# Altium footprint library Recovery.PcbLib: 7 footprints
Each footprint in its own frame and in the unit in brackets; x right, y up, seen from the top. Pads: shape width x height; smd on the part's side, far side on the other; paste and mask are expansions set on the pad; w line width, h text height; cw(c..) or ccw(c..) is an arc to the next point about the centre after c.
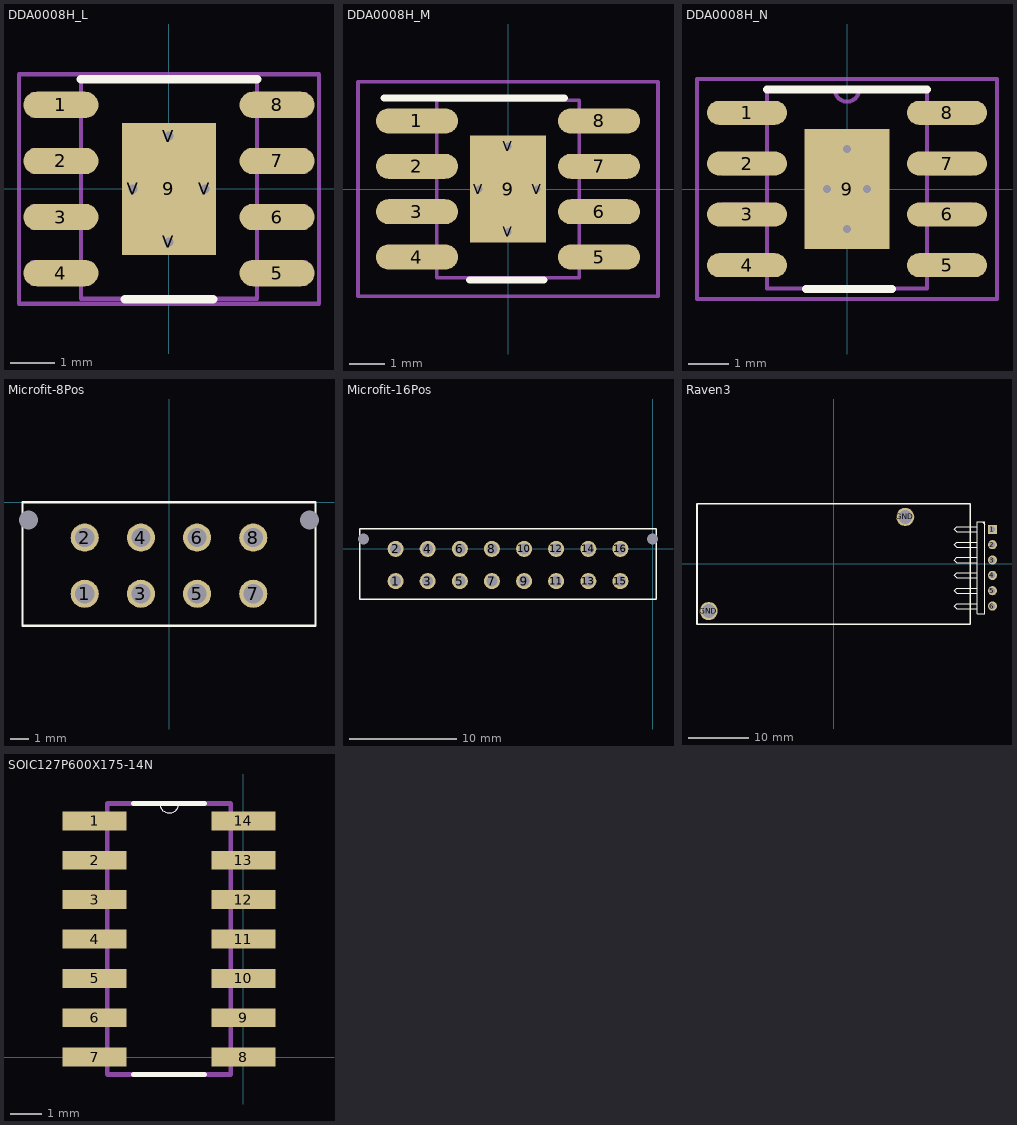
[diagram p0: the footprints below, top view; thin cyan lines are the x and y axes]

## DDA0008H_L [mm]
pads (13):
  oval 1.7x0.6 smd paste-0.102 mask+0.051: 1(-2.45,1.905) 2(-2.45,0.635) 3(-2.45,-0.635) 4(-2.45,-1.905) 5(2.45,-1.905) 6(2.45,-0.635) 7(2.45,0.635) 8(2.45,1.905)
  rect 2.13x3 smd paste-0.102 mask+0.051: 9(0,0)
  round 0.5 / inner round 1.524 / far side round 0.5 hole 0.203 mask+0.051: V(-0.815,0) V(0,-1.2) V(0,1.2) V(0.815,0)
Top Overlay:
  lines w0.2: -1.994,2.489 1.994,2.489 ; -1,-2.5 1,-2.5
Mechanical 13:
  lines w0.1: -3.099,-2.146 -1.994,-2.146 -1.994,-1.664 -3.099,-1.664 -3.099,-2.146 ; -3.099,-0.876 -1.994,-0.876 -1.994,-0.394 -3.099,-0.394 -3.099,-0.876 ; -3.099,0.394 -1.994,0.394 -1.994,0.876 -3.099,0.876 -3.099,0.394 ; -3.099,1.664 -1.994,1.664 -1.994,2.146 -3.099,2.146 -3.099,1.664 ; -1.994,-2.489 -1.994,2.489 1.994,2.489 1.994,-2.489 -1.994,-2.489 ; 1.994,-2.146 3.099,-2.146 3.099,-1.664 1.994,-1.664 1.994,-2.146 ; 1.994,-0.876 3.099,-0.876 3.099,-0.394 1.994,-0.394 1.994,-0.876 ; 1.994,0.394 3.099,0.394 3.099,0.876 1.994,0.876 1.994,0.394 ; 1.994,1.664 3.099,1.664 3.099,2.146 1.994,2.146 1.994,1.664
Mechanical 15:
  lines w0.1: -3.4,-2.6 -3.4,2.6 3.4,2.6 3.4,-2.6 -3.4,-2.6 ; -0.5,0 0.5,0 -0.5,0 ; 0,-0.5 0,0.5 0,-0.5
3D body: height 0.25, standoff 0, extent 0,0 0.254,0.254

## DDA0008H_M [mm]
pads (13):
  oval 2.3x0.7 smd paste-0.102 mask+0.051: 1(-2.55,1.905) 2(-2.55,0.635) 3(-2.55,-0.635) 4(-2.55,-1.905) 5(2.55,-1.905) 6(2.55,-0.635) 7(2.55,0.635) 8(2.55,1.905)
  rect 2.13x3 smd paste-0.102 mask+0.051: 9(0,0)
  round 0.5 / inner round 1.524 / far side round 0.5 hole 0.203 mask+0.051: V(-0.815,0) V(0,-1.2) V(0,1.2) V(0.815,0)
Top Overlay:
  lines w0.2: -3.475,2.55 1.579,2.55 ; -1.075,-2.55 1,-2.55
Mechanical 13:
  lines w0.1: -3.099,-2.146 -3.099,-1.664 -1.994,-1.664 -1.994,-2.146 -3.099,-2.146 ; -3.099,-0.876 -3.099,-0.394 -1.994,-0.394 -1.994,-0.876 -3.099,-0.876 ; -3.099,0.394 -3.099,0.876 -1.994,0.876 -1.994,0.394 -3.099,0.394 ; -3.099,1.664 -3.099,2.146 -1.994,2.146 -1.994,1.664 -3.099,1.664 ; -1.994,-2.489 1.994,-2.489 1.994,2.489 -1.994,2.489 -1.994,-2.489 ; 1.994,-2.146 1.994,-1.664 3.099,-1.664 3.099,-2.146 1.994,-2.146 ; 1.994,-0.876 1.994,-0.394 3.099,-0.394 3.099,-0.876 1.994,-0.876 ; 1.994,0.394 1.994,0.876 3.099,0.876 3.099,0.394 1.994,0.394 ; 1.994,1.664 1.994,2.146 3.099,2.146 3.099,1.664 1.994,1.664
Mechanical 15:
  lines w0.1: -4.2,-3 4.2,-3 4.2,3 -4.2,3 -4.2,-3 ; -0.5,0 0.5,0 -0.5,0 ; 0,-0.5 0,0.5 0,-0.5
3D body: height 0.25, standoff 0, extent 0,0 0.254,0.254

## DDA0008H_N [mm]
pads (9):
  oval 2x0.6 smd paste-0.102 mask+0.051: 1(-2.5,1.905) 2(-2.5,0.635) 3(-2.5,-0.635) 4(-2.5,-1.905) 5(2.5,-1.905) 6(2.5,-0.635) 7(2.5,0.635) 8(2.5,1.905)
  rect 2.13x3 smd paste-0.102 mask+0.051: 9(0,0)
via 0.5,0 diameter 0.5 hole 0.2
via -0.5,0 diameter 0.5 hole 0.2
via 0,-1 diameter 0.5 hole 0.2
via 0,1 diameter 0.5 hole 0.2
Top Overlay:
  lines w0.2: -1.994,2.489 1.994,2.489 ; -1.025,-2.5 1.125,-2.5
Top Paste:
  region: 0.1,1.41 0.1,0.1 1.039,0.1 1.039,1.41
  region: -0.1,0.1 -0.1,1.41 -1.039,1.41 -1.039,0.1
  region: -0.1,-1.41 -0.1,-0.1 -1.039,-0.1 -1.039,-1.41
  region: 0.1,-0.1 0.1,-1.41 1.039,-1.41 1.039,-0.1
Mechanical 13:
  lines w0.1: -0.305,2.489 ccw(c0,2.489) 0.305,2.489 ; -3.099,-2.146 -1.994,-2.146 -1.994,-1.664 -3.099,-1.664 -3.099,-2.146 ; -3.099,-0.876 -1.994,-0.876 -1.994,-0.394 -3.099,-0.394 -3.099,-0.876 ; -3.099,0.394 -1.994,0.394 -1.994,0.876 -3.099,0.876 -3.099,0.394 ; -3.099,1.664 -1.994,1.664 -1.994,2.146 -3.099,2.146 -3.099,1.664 ; -1.994,-2.489 -1.994,2.489 1.994,2.489 1.994,-2.489 -1.994,-2.489 ; 1.994,-2.146 3.099,-2.146 3.099,-1.664 1.994,-1.664 1.994,-2.146 ; 1.994,-0.876 3.099,-0.876 3.099,-0.394 1.994,-0.394 1.994,-0.876 ; 1.994,0.394 3.099,0.394 3.099,0.876 1.994,0.876 1.994,0.394 ; 1.994,1.664 3.099,1.664 3.099,2.146 1.994,2.146 1.994,1.664
Mechanical 15:
  lines w0.1: -0.5,0 0.5,0 ; 0,-0.5 0,0.5 ; -3.75,-2.75 3.75,-2.75 3.75,2.75 -3.75,2.75 -3.75,-2.75
3D body: height 0.25, standoff 0, extent 0,0 0.254,0.254

## Microfit-8Pos [mm]
height 9.91
pads (10):
  round 1.5 hole 1.02 unplated: 1(-4.5,-4.88) 2(-4.5,-1.88) 3(-1.5,-4.88) 4(-1.5,-1.88) 5(1.5,-4.88) 6(1.5,-1.88) 7(4.5,-4.88) 8(4.5,-1.88)
  round 0 hole 1.02 unplated: NONE(-7.5,-0.94) NONE(7.5,-0.94)
Top Overlay:
  lines w0.127: -7.825,-6.58 7.825,-6.58 7.825,0 0,0 -7.825,0 -7.825,-6.58

## Microfit-16Pos [mm]
height 9.91
pads (18):
  round 1.5 hole 1.02 unplated: 1(-24,-3) 2(-24,0) 3(-21,-3) 4(-21,0) 5(-18,-3) 6(-18,0) 7(-15,-3) 8(-15,0) 9(-12,-3) 10(-12,0) 11(-9,-3) 12(-9,0) 13(-6,-3) 14(-6,0) 15(-3,-3) 16(-3,0)
  round 0 hole 1.02 unplated: NONE(-27,0.94) NONE(0,0.94)
Top Overlay:
  lines w0.127: -27.325,-4.7 0.325,-4.7 0.325,1.88 -19.5,1.88 -27.325,1.88 -27.325,-4.7

## Raven3 [mm]
pads (8):
  rect 1.5x1.5 hole 0.9: 1(26.27,5.737)
  round 1.5 hole 0.9: 2(26.27,3.197) 3(26.27,0.657) 4(26.27,-1.883) 5(26.27,-4.423) 6(26.27,-6.963)
  round 3 hole 2.27: GND(-20.675,-7.785) GND(11.835,7.785)
Top Overlay:
  lines w0.2: 23.73,-7.387 20.343,-7.387 19.92,-6.963 20.343,-6.54 23.73,-6.54 ; 23.73,-4.847 20.343,-4.847 19.92,-4.423 20.343,-4 23.73,-4 ; 23.73,-2.307 20.343,-2.307 19.92,-1.883 20.343,-1.46 23.73,-1.46 ; 23.73,0.233 20.343,0.233 19.92,0.657 20.343,1.08 23.73,1.08 ; 23.73,2.773 20.343,2.773 19.92,3.197 20.343,3.62 23.73,3.62 ; 23.73,5.313 20.343,5.313 19.92,5.737 20.343,6.16 23.73,6.16 ; 24.577,7.007 25,6.583 ; 23.73,-8.233 23.73,7.007 25,7.007 25,-8.233 23.73,-8.233
  lines w0.254: -22.605,-10 -22.605,10 22.605,10 22.605,-10 -22.605,-10

## SOIC127P600X175-14N [mil]
pads (14):
  rect 81x24 smd: 1(-189,300) 2(-189,250) 3(-189,200) 4(-189,150) 5(-189,100) 6(-189,50) 7(-189,0) 8(0,0) 9(0,50) 10(0,100) 11(0,150) 12(0,200) 13(0,250) 14(0,300)
Top Overlay:
  lines w0: -106,322 ccw(c-94,322) -82,322
  lines w6: -140,-22 -49,-22 ; -140,322 -106,322 -82,322 -49,322
Mechanical 1:
  lines w0: -106,322 ccw(c-94,322) -82,322
  lines w6: -189,0 -173,0 ; -189,50 -173,50 ; -189,100 -173,100 ; -189,150 -173,150 ; -189,200 -173,200 ; -189,250 -173,250 ; -189,300 -173,300 ; -16,0 0,0 ; -16,50 0,50 ; -16,100 0,100 ; -16,150 0,150 ; -16,200 0,200 ; -16,250 0,250 ; -16,300 0,300 ; -173,-22 -173,322 -106,322 -82,322 -16,322 -16,-22 -173,-22